# Altium integrated library AMP CompactPCI Type B.IntLib: 24 symbols
Pins are listed as number, name and electrical type; pins without a type are passive.

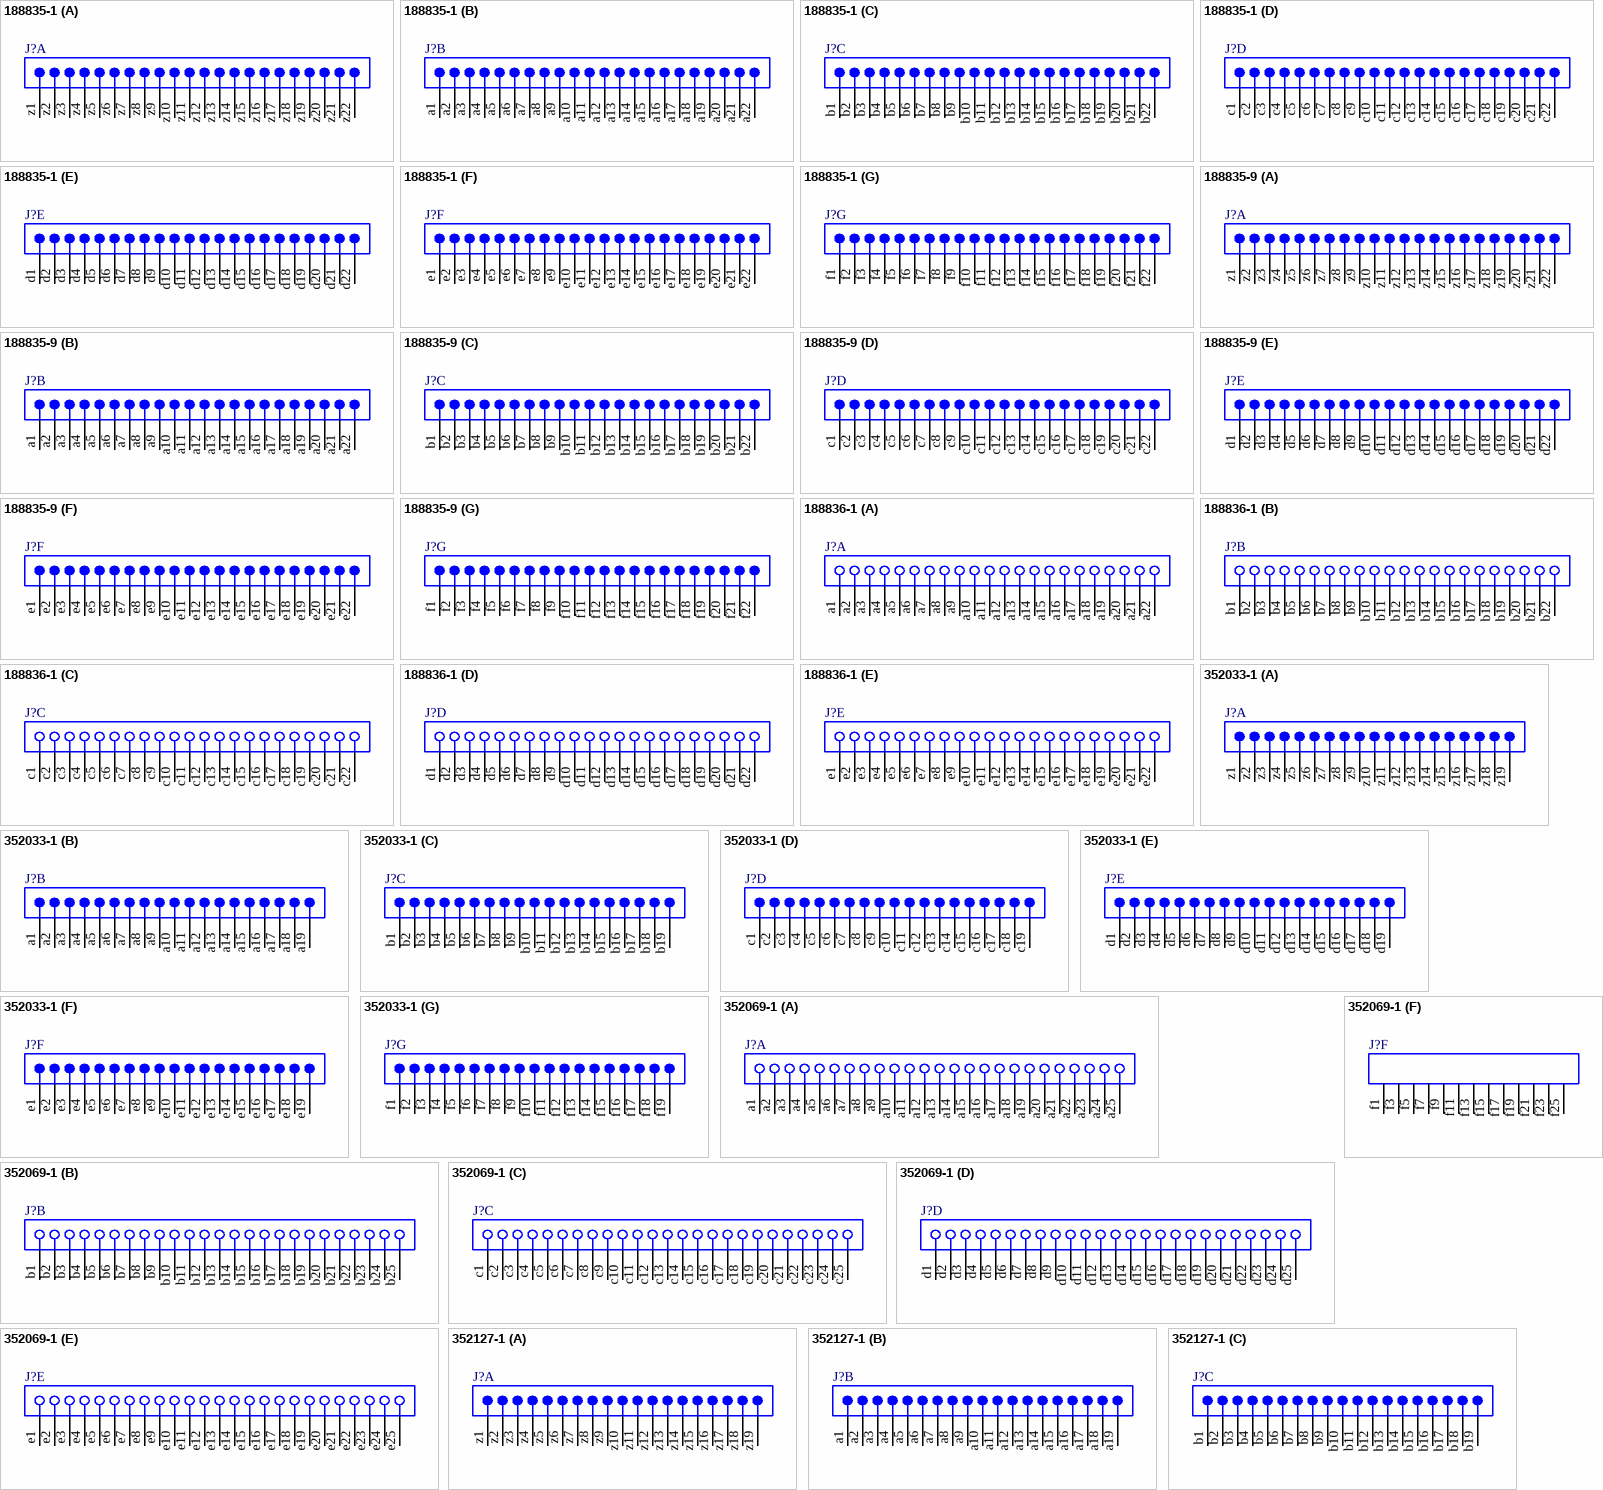
[diagram p0: symbols 188835-1 to 352127-1]

## 188835-1
designator J?
Z-Pack 2mm Hard Metric Type B 154 Position Male PCB Mount Connector; ContactMaterial: Phosphor Bronze; ContactPlating: Gold (30) over Nickel (50); Positions: 154; PCB_Layout: Complies with manufacturer's recommendation.; DrillSize: Corresponds to nominal value.; Published: 17-Jul-2002; LatestRevisionDate: 29-May-2009; LatestRevisionNote: Component Body Added.; DatasheetVersion: 22-Jan-1999; PackageVersion: 22-Jan-1999; PackageReference: 188835-1; Publisher: Altium Limited; Orientation: Vertical; HousingMaterial: Glass-Filled Polyester, UL 94V-0; ComponentLink1Description: Manufacturer Link; ComponentLink1URL: http://www.tycoelectronics.com/; ComponentLink2Description: Packaging Specification; ComponentLink2URL: http://ecommas.tycoelectronics.com/commerce/DocumentDelivery/DDEController?Action=showdoc&DocId=Customer+Drawing%7F188835%7FC%7Fpdf%7FEnglish%7FENG_CD_188835_C.pdf; ComponentLink3Description: Iges Model; ComponentLink3URL: http://catalog.tycoelectronics.com/TE/docs/cadgeo/8/75/38578.tar.gz
footprint 188835-1 (Connector; CompactPCI; 154 Position; Vertical)
signal-integrity model CompactPCI
part A pins: z1, z2, z3, z4, z5, z6, z7, z8, z9, z10, z11, z12, z13, z14, z15, z16, z17, z18, z19, z20, z21, z22
part B pins: a1, a2, a3, a4, a5, a6, a7, a8, a9, a10, a11, a12, a13, a14, a15, a16, a17, a18, a19, a20, a21, a22
part C pins: b1, b2, b3, b4, b5, b6, b7, b8, b9, b10, b11, b12, b13, b14, b15, b16, b17, b18, b19, b20, b21, b22
part D pins: c1, c2, c3, c4, c5, c6, c7, c8, c9, c10, c11, c12, c13, c14, c15, c16, c17, c18, c19, c20, c21, c22
part E pins: d1, d2, d3, d4, d5, d6, d7, d8, d9, d10, d11, d12, d13, d14, d15, d16, d17, d18, d19, d20, d21, d22
part F pins: e1, e2, e3, e4, e5, e6, e7, e8, e9, e10, e11, e12, e13, e14, e15, e16, e17, e18, e19, e20, e21, e22
part G pins: f1, f2, f3, f4, f5, f6, f7, f8, f9, f10, f11, f12, f13, f14, f15, f16, f17, f18, f19, f20, f21, f22

## 188835-9
designator J?
Z-Pack 2mm Hard Metric Type B 154 Position Male PCB Mount Connector; ContactMaterial: Phosphor Bronze; ContactPlating: Gold (30) over Nickel (50); Positions: 154; PCB_Layout: Complies with manufacturer's recommendation.; DrillSize: Corresponds to nominal value.; Published: 17-Jul-2002; LatestRevisionDate: 29-May-2009; LatestRevisionNote: Component Body Added.; DatasheetVersion: 22-Jan-1999; PackageVersion: 22-Jan-1999; PackageReference: 188835-9; Publisher: Altium Limited; Orientation: Vertical; HousingMaterial: Glass-Filled Polyester, UL 94V-0; ComponentLink1Description: Manufacturer Link; ComponentLink1URL: http://www.tycoelectronics.com/; ComponentLink2Description: Packaging Specification; ComponentLink2URL: http://ecommas.tycoelectronics.com/commerce/DocumentDelivery/DDEController?Action=showdoc&DocId=Customer+Drawing%7F188835%7FC%7Fpdf%7FEnglish%7FENG_CD_188835_C.pdf; ComponentLink3Description: Iges Model; ComponentLink3URL: http://catalog.tycoelectronics.com/TE/docs/cadgeo/8/75/38578.tar.gz
footprint 188835-9 (Connector; CompactPCI; 154 Position; Vertical)
signal-integrity model CompactPCI
part A pins: z1, z2, z3, z4, z5, z6, z7, z8, z9, z10, z11, z12, z13, z14, z15, z16, z17, z18, z19, z20, z21, z22
part B pins: a1, a2, a3, a4, a5, a6, a7, a8, a9, a10, a11, a12, a13, a14, a15, a16, a17, a18, a19, a20, a21, a22
part C pins: b1, b2, b3, b4, b5, b6, b7, b8, b9, b10, b11, b12, b13, b14, b15, b16, b17, b18, b19, b20, b21, b22
part D pins: c1, c2, c3, c4, c5, c6, c7, c8, c9, c10, c11, c12, c13, c14, c15, c16, c17, c18, c19, c20, c21, c22
part E pins: d1, d2, d3, d4, d5, d6, d7, d8, d9, d10, d11, d12, d13, d14, d15, d16, d17, d18, d19, d20, d21, d22
part F pins: e1, e2, e3, e4, e5, e6, e7, e8, e9, e10, e11, e12, e13, e14, e15, e16, e17, e18, e19, e20, e21, e22
part G pins: f1, f2, f3, f4, f5, f6, f7, f8, f9, f10, f11, f12, f13, f14, f15, f16, f17, f18, f19, f20, f21, f22

## 188836-1
designator J?
Z-Pack 2mm Hard Metric Type B 110 Position Female Daughter Card Connector; ContactMaterial: Phosphor Bronze; ContactPlating: Gold (30) over Nickel (50); Positions: 110; PCB_Layout: Complies with manufacturer's recommendation.; DrillSize: Corresponds to nominal value.; Published: 17-Jul-2002; LatestRevisionDate: 29-May-2009; LatestRevisionNote: Component Body Added.; DatasheetVersion: 2-Jun-1997; PackageVersion: 02-Jun-1997; PackageReference: 188836-1; Publisher: Altium Limited; Orientation: Right Angle; HousingMaterial: Glass-Filled Polyester, UL 94V-0; ComponentLink1Description: Manufacturer Link; ComponentLink1URL: http://www.tycoelectronics.com/; ComponentLink2Description: Packaging Specification; ComponentLink2URL: http://ecommas.tycoelectronics.com/commerce/DocumentDelivery/DDEController?Action=showdoc&DocId=Customer+Drawing%7F188836%7FE%7Ftif%7FEnglish%7FENG_CD_188836_E.tif
footprint 188836-1 (Connector; CompactPCI; 110 Position; Right Angle)
signal-integrity model CompactPCI
part A pins: a1, a2, a3, a4, a5, a6, a7, a8, a9, a10, a11, a12, a13, a14, a15, a16, a17, a18, a19, a20, a21, a22
part B pins: b1, b2, b3, b4, b5, b6, b7, b8, b9, b10, b11, b12, b13, b14, b15, b16, b17, b18, b19, b20, b21, b22
part C pins: c1, c2, c3, c4, c5, c6, c7, c8, c9, c10, c11, c12, c13, c14, c15, c16, c17, c18, c19, c20, c21, c22
part D pins: d1, d2, d3, d4, d5, d6, d7, d8, d9, d10, d11, d12, d13, d14, d15, d16, d17, d18, d19, d20, d21, d22
part E pins: e1, e2, e3, e4, e5, e6, e7, e8, e9, e10, e11, e12, e13, e14, e15, e16, e17, e18, e19, e20, e21, e22

## 352033-1
designator J?
Z-Pack 2mm Hard Metric Type B 133 Position Male PCB Mount Connector; ContactMaterial: Phosphor Bronze; ContactPlating: Gold (30) over Nickel (50); Positions: 133; PCB_Layout: Complies with manufacturer's recommendation.; DrillSize: Corresponds to nominal value.; Published: 17-Jul-2002; LatestRevisionDate: 29-May-2009; LatestRevisionNote: Component Body Added.; DatasheetVersion: 13-Jun-2000; PackageVersion: 13-Jun-2000; PackageReference: 352033-1; Publisher: Altium Limited; Orientation: Vertical; HousingMaterial: Glass-Filled Polyester, UL 94V-0; ComponentLink1Description: Manufacturer Link; ComponentLink1URL: http://www.tycoelectronics.com/; ComponentLink2Description: Packaging Specification; ComponentLink2URL: http://ecommas.tycoelectronics.com/commerce/DocumentDelivery/DDEController?Action=showdoc&DocId=Customer+Drawing%7F352033%7FF%7Ftif%7FEnglish%7FENG_CD_352033_F.tif; ComponentLink3Description: Iges Model; ComponentLink3URL: http://catalog.tycoelectronics.com/TE/docs/cadgeo/8/72/36278.tar.gz
footprint 352033-1 (Connector; CompactPCI; 133 Position; Vertical)
signal-integrity model CompactPCI
part A pins: z1, z2, z3, z4, z5, z6, z7, z8, z9, z10, z11, z12, z13, z14, z15, z16, z17, z18, z19
part B pins: a1, a2, a3, a4, a5, a6, a7, a8, a9, a10, a11, a12, a13, a14, a15, a16, a17, a18, a19
part C pins: b1, b2, b3, b4, b5, b6, b7, b8, b9, b10, b11, b12, b13, b14, b15, b16, b17, b18, b19
part D pins: c1, c2, c3, c4, c5, c6, c7, c8, c9, c10, c11, c12, c13, c14, c15, c16, c17, c18, c19
part E pins: d1, d2, d3, d4, d5, d6, d7, d8, d9, d10, d11, d12, d13, d14, d15, d16, d17, d18, d19
part F pins: e1, e2, e3, e4, e5, e6, e7, e8, e9, e10, e11, e12, e13, e14, e15, e16, e17, e18, e19
part G pins: f1, f2, f3, f4, f5, f6, f7, f8, f9, f10, f11, f12, f13, f14, f15, f16, f17, f18, f19

## 352069-1
designator J?
Z-Pack 2mm Hard Metric Type B 125 Position Female PCB Mount Connector; ContactMaterial: Phosphor Bronze; ContactPlating: Gold (30) over Nickel (50); Positions: 125; PCB_Layout: Complies with manufacturer's recommendation.; DrillSize: Corresponds to nominal value.; Published: 17-Jul-2002; LatestRevisionDate: 29-May-2009; LatestRevisionNote: Component Body Added.; DatasheetVersion: 12-Jul-2000; PackageVersion: 12-Jul-2000; PackageReference: 352069-1; Publisher: Altium Limited; Orientation: Right Angle; HousingMaterial: Glass-Filled Polyester, UL 94V-0; ComponentLink1Description: Manufacturer Link; ComponentLink1URL: http://www.tycoelectronics.com/; ComponentLink2Description: Packaging Specification; ComponentLink2URL: http://ecommas.tycoelectronics.com/commerce/DocumentDelivery/DDEController?Action=showdoc&DocId=Customer+Drawing%7F352069%7FF%7Fpdf%7FEnglish%7FENG_CD_352069_F.pdf; ComponentLink3Description: Iges Model; ComponentLink3URL: http://catalog.tycoelectronics.com/TE/docs/cadgeo/9/10/34019.tar.gz
footprint 352069-1 (Connector; CompactPCI; 125 Position; Right Angle)
signal-integrity model CompactPCI
part A pins: a1, a2, a3, a4, a5, a6, a7, a8, a9, a10, a11, a12, a13, a14, a15, a16, a17, a18, a19, a20, a21, a22, a23, a24, a25
part B pins: b1, b2, b3, b4, b5, b6, b7, b8, b9, b10, b11, b12, b13, b14, b15, b16, b17, b18, b19, b20, b21, b22, b23, b24, b25
part C pins: c1, c2, c3, c4, c5, c6, c7, c8, c9, c10, c11, c12, c13, c14, c15, c16, c17, c18, c19, c20, c21, c22, c23, c24, c25
part D pins: d1, d2, d3, d4, d5, d6, d7, d8, d9, d10, d11, d12, d13, d14, d15, d16, d17, d18, d19, d20, d21, d22, d23, d24, d25
part E pins: e1, e2, e3, e4, e5, e6, e7, e8, e9, e10, e11, e12, e13, e14, e15, e16, e17, e18, e19, e20, e21, e22, e23, e24, e25
part F pins: f1, f3, f5, f7, f9, f11, f13, f15, f17, f19, f21, f23, f25

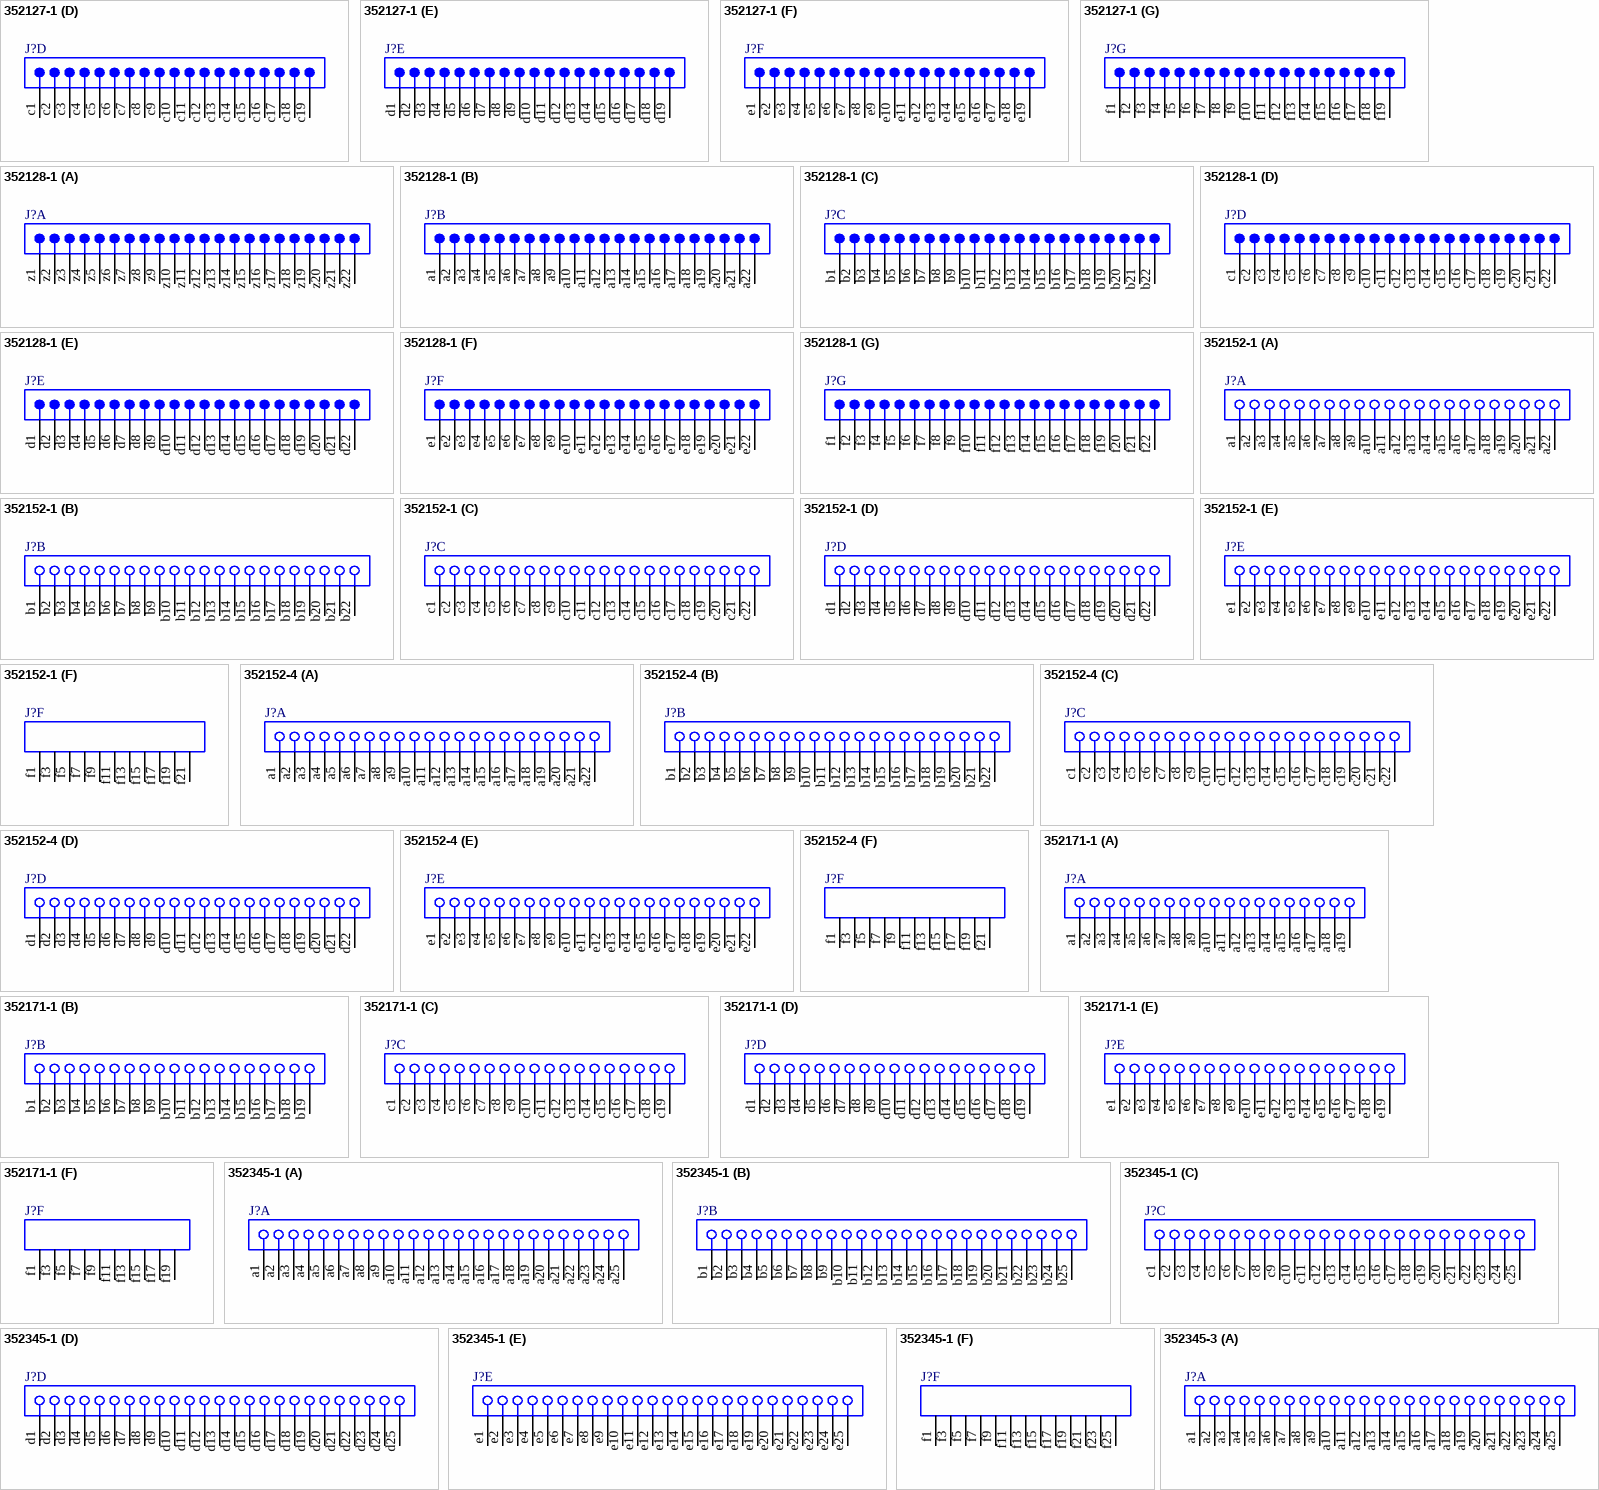
[diagram p1: symbols 352127-1 to 352345-3]

## 352127-1
designator J?
Z-Pack 2mm Hard Metric Type B 133 Position Male PCB Mount Connector; ContactMaterial: Phosphor Bronze; ContactPlating: Gold (30) over Nickel (50); Positions: 133; PCB_Layout: Complies with manufacturer's recommendation.; DrillSize: Corresponds to nominal value.; Published: 17-Jul-2002; LatestRevisionDate: 29-May-2009; LatestRevisionNote: Component Body Added.; DatasheetVersion: 7-Mar-2000; PackageVersion: 07-Mar-2000; PackageReference: 352127-1; Publisher: Altium Limited; Orientation: Vertical; HousingMaterial: Glass-Filled Polyester, UL 94V-0; ComponentLink1Description: Manufacturer Link; ComponentLink1URL: http://www.tycoelectronics.com/; ComponentLink2Description: Packaging Specification; ComponentLink2URL: http://ecommas.tycoelectronics.com/commerce/DocumentDelivery/DDEController?Action=showdoc&DocId=Customer+Drawing%7F352127%7FE%7Ftif%7FEnglish%7FENG_CD_352127_E.tif; ComponentLink3Description: Iges Model; ComponentLink3URL: http://catalog.tycoelectronics.com/TE/docs/cadgeo/6/56/38656.tar.gz
footprint 352127-1 (Connector; CompactPCI; 133 Position; Vertical)
signal-integrity model CompactPCI
part A pins: z1, z2, z3, z4, z5, z6, z7, z8, z9, z10, z11, z12, z13, z14, z15, z16, z17, z18, z19
part B pins: a1, a2, a3, a4, a5, a6, a7, a8, a9, a10, a11, a12, a13, a14, a15, a16, a17, a18, a19
part C pins: b1, b2, b3, b4, b5, b6, b7, b8, b9, b10, b11, b12, b13, b14, b15, b16, b17, b18, b19
part D pins: c1, c2, c3, c4, c5, c6, c7, c8, c9, c10, c11, c12, c13, c14, c15, c16, c17, c18, c19
part E pins: d1, d2, d3, d4, d5, d6, d7, d8, d9, d10, d11, d12, d13, d14, d15, d16, d17, d18, d19
part F pins: e1, e2, e3, e4, e5, e6, e7, e8, e9, e10, e11, e12, e13, e14, e15, e16, e17, e18, e19
part G pins: f1, f2, f3, f4, f5, f6, f7, f8, f9, f10, f11, f12, f13, f14, f15, f16, f17, f18, f19

## 352128-1
designator J?
Z-Pack 2mm Hard Metric Type B 154 Position Male PCB Mount Connector; ContactMaterial: Phosphor Bronze; ContactPlating: Gold (30) over Nickel (50); Positions: 154; PCB_Layout: Complies with manufacturer's recommendation.; DrillSize: Corresponds to nominal value.; Published: 17-Jul-2002; LatestRevisionDate: 29-May-2009; LatestRevisionNote: Component Body Added.; DatasheetVersion: 10-Mar-2000; PackageVersion: 10-Mar-2000; PackageReference: 352128-1; Publisher: Altium Limited; Orientation: Vertical; HousingMaterial: Glass-Filled Polyester, UL 94V-0; ComponentLink1Description: Manufacturer Link; ComponentLink1URL: http://www.tycoelectronics.com/; ComponentLink2Description: Packaging Specification; ComponentLink2URL: http://ecommas.tycoelectronics.com/commerce/DocumentDelivery/DDEController?Action=showdoc&DocId=Customer+Drawing%7F352128%7FD%7Ftif%7FEnglish%7FENG_CD_352128_D.tif; ComponentLink3Description: Iges Model; ComponentLink3URL: http://catalog.tycoelectronics.com/TE/docs/cadgeo/2/66/38662.tar.gz
footprint 352128-1 (Connector; CompactPCI; 154 Position; Vertical)
signal-integrity model CompactPCI
part A pins: z1, z2, z3, z4, z5, z6, z7, z8, z9, z10, z11, z12, z13, z14, z15, z16, z17, z18, z19, z20, z21, z22
part B pins: a1, a2, a3, a4, a5, a6, a7, a8, a9, a10, a11, a12, a13, a14, a15, a16, a17, a18, a19, a20, a21, a22
part C pins: b1, b2, b3, b4, b5, b6, b7, b8, b9, b10, b11, b12, b13, b14, b15, b16, b17, b18, b19, b20, b21, b22
part D pins: c1, c2, c3, c4, c5, c6, c7, c8, c9, c10, c11, c12, c13, c14, c15, c16, c17, c18, c19, c20, c21, c22
part E pins: d1, d2, d3, d4, d5, d6, d7, d8, d9, d10, d11, d12, d13, d14, d15, d16, d17, d18, d19, d20, d21, d22
part F pins: e1, e2, e3, e4, e5, e6, e7, e8, e9, e10, e11, e12, e13, e14, e15, e16, e17, e18, e19, e20, e21, e22
part G pins: f1, f2, f3, f4, f5, f6, f7, f8, f9, f10, f11, f12, f13, f14, f15, f16, f17, f18, f19, f20, f21, f22

## 352152-1
designator J?
Z-Pack 2mm Hard Metric Type B 110 Position Female Daughter Card Connector; ContactMaterial: Phosphor Bronze; ContactPlating: Gold (30) over Nickel (50); Positions: 110; PCB_Layout: Complies with manufacturer's recommendation.; DrillSize: Corresponds to nominal value.; Published: 17-Jul-2002; LatestRevisionDate: 29-May-2009; LatestRevisionNote: Component Body Added.; DatasheetVersion: 20-Jul-2000; PackageVersion: 20-Jul-2000; PackageReference: 352152-1; Publisher: Altium Limited; Orientation: Right Angle; HousingMaterial: Glass-Filled Polyester, UL 94V-0; ComponentLink1Description: Manufacturer Link; ComponentLink1URL: http://www.tycoelectronics.com/; ComponentLink2Description: Packaging Specification; ComponentLink2URL: http://ecommas.tycoelectronics.com/commerce/DocumentDelivery/DDEController?Action=showdoc&DocId=Customer+Drawing%7F352152%7FG%7Fpdf%7FEnglish%7FENG_CD_352152_G.pdf; ComponentLink3Description: Iges Model; ComponentLink3URL: http://catalog.tycoelectronics.com/TE/docs/cadgeo/6/66/38666.tar.gz
footprint 352152-1 (Connector; CompactPCI; 110 Position; Right Angle)
signal-integrity model CompactPCI
part A pins: a1, a2, a3, a4, a5, a6, a7, a8, a9, a10, a11, a12, a13, a14, a15, a16, a17, a18, a19, a20, a21, a22
part B pins: b1, b2, b3, b4, b5, b6, b7, b8, b9, b10, b11, b12, b13, b14, b15, b16, b17, b18, b19, b20, b21, b22
part C pins: c1, c2, c3, c4, c5, c6, c7, c8, c9, c10, c11, c12, c13, c14, c15, c16, c17, c18, c19, c20, c21, c22
part D pins: d1, d2, d3, d4, d5, d6, d7, d8, d9, d10, d11, d12, d13, d14, d15, d16, d17, d18, d19, d20, d21, d22
part E pins: e1, e2, e3, e4, e5, e6, e7, e8, e9, e10, e11, e12, e13, e14, e15, e16, e17, e18, e19, e20, e21, e22
part F pins: f1, f3, f5, f7, f9, f11, f13, f15, f17, f19, f21

## 352152-4
designator J?
Z-Pack 2mm Hard Metric Type B 110 Position Female Daughter Card Connector; ContactMaterial: Phosphor Bronze; ContactPlating: Gold (50) over Nickel (50); Positions: 110; PCB_Layout: Complies with manufacturer's recommendation.; DrillSize: Corresponds to nominal value.; Published: 17-Jul-2002; LatestRevisionDate: 29-May-2009; LatestRevisionNote: Component Body Added.; DatasheetVersion: 20-Jul-2000; PackageVersion: 20-Jul-2000; PackageReference: 352152-4; Publisher: Altium Limited; Orientation: Right Angle; HousingMaterial: Glass-Filled Polyester, UL 94V-0; ComponentLink1Description: Manufacturer Link; ComponentLink1URL: http://www.tycoelectronics.com/; ComponentLink2Description: Packaging Specification; ComponentLink2URL: http://ecommas.tycoelectronics.com/commerce/DocumentDelivery/DDEController?Action=showdoc&DocId=Customer+Drawing%7F352152%7FG%7Fpdf%7FEnglish%7FENG_CD_352152_G.pdf; ComponentLink3Description: Iges Model; ComponentLink3URL: http://catalog.tycoelectronics.com/TE/docs/cadgeo/6/66/38666.tar.gz
footprint 352152-4 (Connector; CompactPCI; 110 Position; Right Angle)
signal-integrity model CompactPCI
part A pins: a1, a2, a3, a4, a5, a6, a7, a8, a9, a10, a11, a12, a13, a14, a15, a16, a17, a18, a19, a20, a21, a22
part B pins: b1, b2, b3, b4, b5, b6, b7, b8, b9, b10, b11, b12, b13, b14, b15, b16, b17, b18, b19, b20, b21, b22
part C pins: c1, c2, c3, c4, c5, c6, c7, c8, c9, c10, c11, c12, c13, c14, c15, c16, c17, c18, c19, c20, c21, c22
part D pins: d1, d2, d3, d4, d5, d6, d7, d8, d9, d10, d11, d12, d13, d14, d15, d16, d17, d18, d19, d20, d21, d22
part E pins: e1, e2, e3, e4, e5, e6, e7, e8, e9, e10, e11, e12, e13, e14, e15, e16, e17, e18, e19, e20, e21, e22
part F pins: f1, f3, f5, f7, f9, f11, f13, f15, f17, f19, f21

## 352171-1
designator J?
Z-Pack 2mm Hard Metric Type B 95 Position Female PCB Mount Connector; ContactMaterial: Phosphor Bronze; ContactPlating: Gold (30) over Nickel (50); Positions: 95; PCB_Layout: Complies with manufacturer's recommendation.; DrillSize: Corresponds to nominal value.; Published: 17-Jul-2002; LatestRevisionDate: 29-May-2009; LatestRevisionNote: Component Body Added.; DatasheetVersion: 19-Jul-2000; PackageVersion: 19-Jul-2000; PackageReference: 352171-1; Publisher: Altium Limited; Orientation: Right Angle; HousingMaterial: Glass-Filled Polyester, UL 94V-0; ComponentLink1Description: Manufacturer Link; ComponentLink1URL: http://www.tycoelectronics.com/; ComponentLink2Description: Packaging Specification; ComponentLink2URL: http://ecommas.tycoelectronics.com/commerce/DocumentDelivery/DDEController?Action=showdoc&DocId=Customer+Drawing%7F352171%7FF%7Ftif%7FEnglish%7FENG_CD_352171_F.tif; ComponentLink3Description: Iges Model; ComponentLink3URL: http://catalog.tycoelectronics.com/TE/docs/cadgeo/4/76/38674.tar.gz
footprint 352171-1 (Connector; CompactPCI; 95 Position; Right Angle)
signal-integrity model CompactPCI
part A pins: a1, a2, a3, a4, a5, a6, a7, a8, a9, a10, a11, a12, a13, a14, a15, a16, a17, a18, a19
part B pins: b1, b2, b3, b4, b5, b6, b7, b8, b9, b10, b11, b12, b13, b14, b15, b16, b17, b18, b19
part C pins: c1, c2, c3, c4, c5, c6, c7, c8, c9, c10, c11, c12, c13, c14, c15, c16, c17, c18, c19
part D pins: d1, d2, d3, d4, d5, d6, d7, d8, d9, d10, d11, d12, d13, d14, d15, d16, d17, d18, d19
part E pins: e1, e2, e3, e4, e5, e6, e7, e8, e9, e10, e11, e12, e13, e14, e15, e16, e17, e18, e19
part F pins: f1, f3, f5, f7, f9, f11, f13, f15, f17, f19

## 352345-1
designator J?
Z-Pack 2mm Hard Metric Type B 125 Position Female PCB Mount Connector; ContactMaterial: Phosphor Bronze; ContactPlating: Gold (30) over Nickel (50); Positions: 125; PCB_Layout: Complies with manufacturer's recommendation.; DrillSize: Corresponds to nominal value.; Published: 17-Jul-2002; LatestRevisionDate: 29-May-2009; LatestRevisionNote: Component Body Added.; DatasheetVersion: 13-Jul-2000; PackageVersion: 13-Jul-2000; PackageReference: 352345-1; Publisher: Altium Limited; Orientation: Right Angle; HousingMaterial: Glass-Filled Polyester, UL 94V-0; ComponentLink1Description: Manufacturer Link; ComponentLink1URL: http://www.tycoelectronics.com/; ComponentLink2Description: Packaging Specification; ComponentLink2URL: http://ecommas.tycoelectronics.com/commerce/DocumentDelivery/DDEController?Action=showdoc&DocId=Customer+Drawing%7F352345%7FE%7Ftif%7FEnglish%7FENG_CD_352345_E.tif; ComponentLink3Description: URL Link1; ComponentLink3URL: http://catalog.tycoelectronics.com/TE/docs/cadgeo/6/79/72976.tar.gz
footprint 352345-1 (Connector; CompactPCI; 125 Position; Right Angle)
signal-integrity model CompactPCI
part A pins: a1, a2, a3, a4, a5, a6, a7, a8, a9, a10, a11, a12, a13, a14, a15, a16, a17, a18, a19, a20, a21, a22, a23, a24, a25
part B pins: b1, b2, b3, b4, b5, b6, b7, b8, b9, b10, b11, b12, b13, b14, b15, b16, b17, b18, b19, b20, b21, b22, b23, b24, b25
part C pins: c1, c2, c3, c4, c5, c6, c7, c8, c9, c10, c11, c12, c13, c14, c15, c16, c17, c18, c19, c20, c21, c22, c23, c24, c25
part D pins: d1, d2, d3, d4, d5, d6, d7, d8, d9, d10, d11, d12, d13, d14, d15, d16, d17, d18, d19, d20, d21, d22, d23, d24, d25
part E pins: e1, e2, e3, e4, e5, e6, e7, e8, e9, e10, e11, e12, e13, e14, e15, e16, e17, e18, e19, e20, e21, e22, e23, e24, e25
part F pins: f1, f3, f5, f7, f9, f11, f13, f15, f17, f19, f21, f23, f25

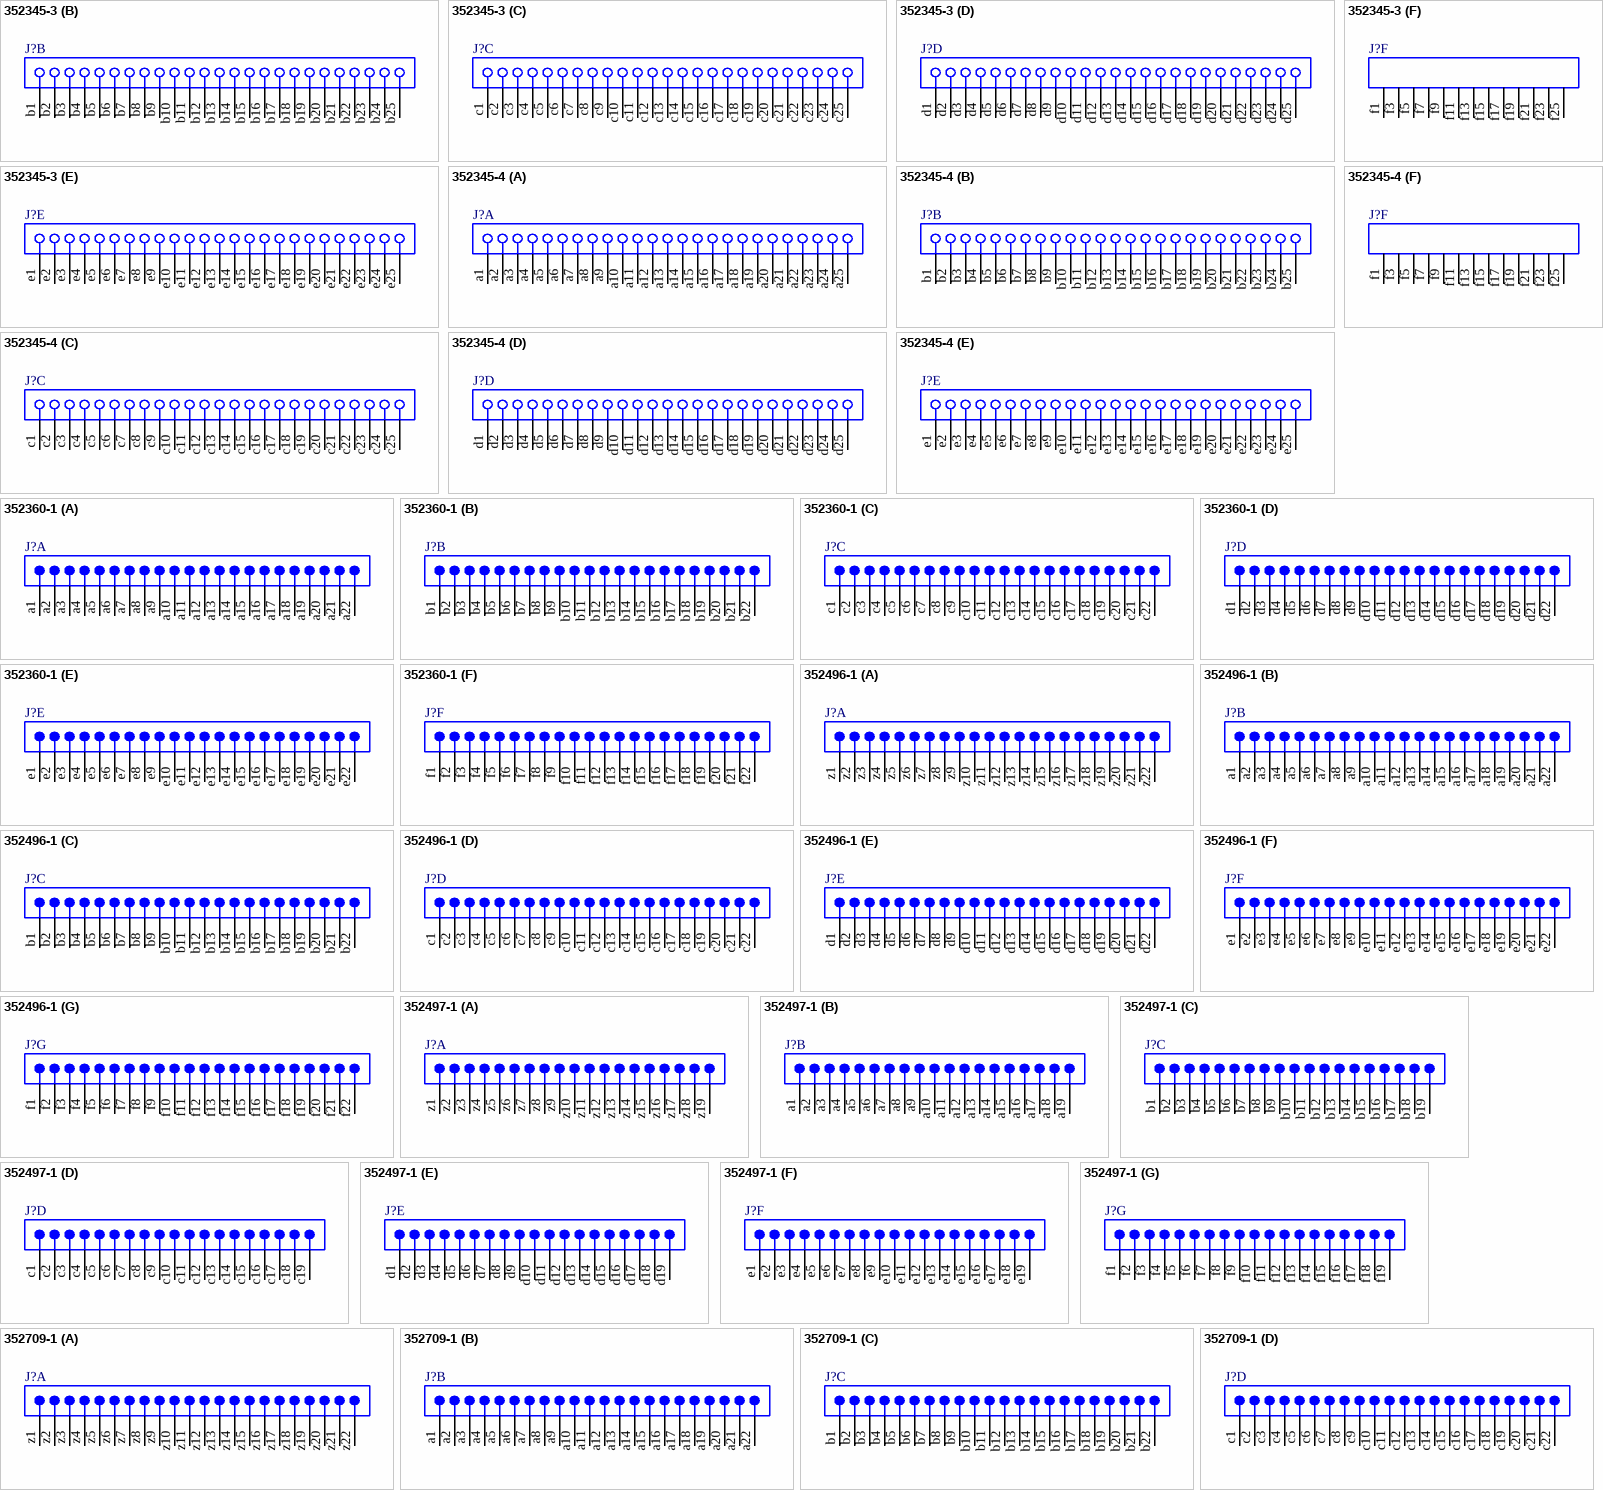
[diagram p2: symbols 352345-3 to 352709-1]

## 352345-3
designator J?
Z-Pack 2mm Hard Metric Type B 125 Position Female PCB Mount Connector; ContactMaterial: Phosphor Bronze; ContactPlating: Gold (80) over Nickel; Positions: 125; PCB_Layout: Complies with manufacturer's recommendation.; DrillSize: Corresponds to nominal value.; ComponentAvailability: Obsolete; Published: 17-Jul-2002; LatestRevisionDate: 29-May-2009; LatestRevisionNote: Component Body Added.; DatasheetVersion: 13-Jul-2000; PackageVersion: 13-Jul-2000; PackageReference: 352345-3; Publisher: Altium Limited; Orientation: Right Angle; HousingMaterial: Glass-Filled Polyester, UL 94V-0; ComponentLink1Description: Manufacturer Link; ComponentLink1URL: http://www.tycoelectronics.com/; ComponentLink2Description: Packaging Specification; ComponentLink2URL: http://ecommas.tycoelectronics.com/commerce/DocumentDelivery/DDEController?Action=showdoc&DocId=Customer+Drawing%7F352345%7FE%7Ftif%7FEnglish%7FENG_CD_352345_E.tif; ComponentLink3Description: URL Link1; ComponentLink3URL: http://catalog.tycoelectronics.com/TE/docs/cadgeo/6/79/72976.tar.gz
footprint 352345-3 (Connector; CompactPCI; 125 Position; Right Angle)
signal-integrity model CompactPCI
part A pins: a1, a2, a3, a4, a5, a6, a7, a8, a9, a10, a11, a12, a13, a14, a15, a16, a17, a18, a19, a20, a21, a22, a23, a24, a25
part B pins: b1, b2, b3, b4, b5, b6, b7, b8, b9, b10, b11, b12, b13, b14, b15, b16, b17, b18, b19, b20, b21, b22, b23, b24, b25
part C pins: c1, c2, c3, c4, c5, c6, c7, c8, c9, c10, c11, c12, c13, c14, c15, c16, c17, c18, c19, c20, c21, c22, c23, c24, c25
part D pins: d1, d2, d3, d4, d5, d6, d7, d8, d9, d10, d11, d12, d13, d14, d15, d16, d17, d18, d19, d20, d21, d22, d23, d24, d25
part E pins: e1, e2, e3, e4, e5, e6, e7, e8, e9, e10, e11, e12, e13, e14, e15, e16, e17, e18, e19, e20, e21, e22, e23, e24, e25
part F pins: f1, f3, f5, f7, f9, f11, f13, f15, f17, f19, f21, f23, f25

## 352345-4
designator J?
Z-Pack 2mm Hard Metric Type B 125 Position Female PCB Mount Connector; ContactMaterial: Phosphor Bronze; ContactPlating: Gold (50) over Nickel (50); Positions: 125; PCB_Layout: Complies with manufacturer's recommendation.; DrillSize: Corresponds to nominal value.; Published: 17-Jul-2002; LatestRevisionDate: 29-May-2009; LatestRevisionNote: Component Body Added.; DatasheetVersion: 13-Jul-2000; PackageVersion: 13-Jul-2000; PackageReference: 352345-4; Publisher: Altium Limited; Orientation: Right Angle; HousingMaterial: Glass-Filled Polyester, UL 94V-0; ComponentLink1Description: Manufacturer Link; ComponentLink1URL: http://www.tycoelectronics.com/; ComponentLink2Description: Packaging Specification; ComponentLink2URL: http://ecommas.tycoelectronics.com/commerce/DocumentDelivery/DDEController?Action=showdoc&DocId=Customer+Drawing%7F352345%7FE%7Ftif%7FEnglish%7FENG_CD_352345_E.tif; ComponentLink3Description: URL Link1; ComponentLink3URL: http://catalog.tycoelectronics.com/TE/docs/cadgeo/6/79/72976.tar.gz
footprint 352345-4 (Connector; CompactPCI; 125 Position; Right Angle)
signal-integrity model CompactPCI
part A pins: a1, a2, a3, a4, a5, a6, a7, a8, a9, a10, a11, a12, a13, a14, a15, a16, a17, a18, a19, a20, a21, a22, a23, a24, a25
part B pins: b1, b2, b3, b4, b5, b6, b7, b8, b9, b10, b11, b12, b13, b14, b15, b16, b17, b18, b19, b20, b21, b22, b23, b24, b25
part C pins: c1, c2, c3, c4, c5, c6, c7, c8, c9, c10, c11, c12, c13, c14, c15, c16, c17, c18, c19, c20, c21, c22, c23, c24, c25
part D pins: d1, d2, d3, d4, d5, d6, d7, d8, d9, d10, d11, d12, d13, d14, d15, d16, d17, d18, d19, d20, d21, d22, d23, d24, d25
part E pins: e1, e2, e3, e4, e5, e6, e7, e8, e9, e10, e11, e12, e13, e14, e15, e16, e17, e18, e19, e20, e21, e22, e23, e24, e25
part F pins: f1, f3, f5, f7, f9, f11, f13, f15, f17, f19, f21, f23, f25

## 352360-1
designator J?
Z-pack 2mm Hard Metric Type B 132 Position Male PCB Mount Connector; ContactMaterial: Phosphor Bronze; ContactPlating: Gold (30) over Nickel (50); Positions: 132; PCB_Layout: Complies with manufacturer's recommendation.; DrillSize: Corresponds to nominal value.; ComponentAvailability: Obsolete; Published: 17-Jul-2002; LatestRevisionDate: 29-May-2009; LatestRevisionNote: Component Body Added.; DatasheetVersion: 10-Mar-2000; PackageVersion: 10-Mar-2000; PackageReference: 352360-1; Publisher: Altium Limited; Orientation: Vertical; HousingMaterial: Glass-Filled Polyester, UL 94V-0; ComponentLink1Description: Manufacturer Link; ComponentLink1URL: http://www.tycoelectronics.com/; ComponentLink2Description: Packaging Specification; ComponentLink2URL: http://ecommas.tycoelectronics.com/commerce/DocumentDelivery/DDEController?Action=showdoc&DocId=Customer+Drawing%7F352360%7FB%7Fpdf%7FEnglish%7FENG_CD_352360_B.pdf
footprint 352360-1 (Connector; CompactPCI; 132 Position; Vertical)
signal-integrity model CompactPCI
part A pins: a1, a2, a3, a4, a5, a6, a7, a8, a9, a10, a11, a12, a13, a14, a15, a16, a17, a18, a19, a20, a21, a22
part B pins: b1, b2, b3, b4, b5, b6, b7, b8, b9, b10, b11, b12, b13, b14, b15, b16, b17, b18, b19, b20, b21, b22
part C pins: c1, c2, c3, c4, c5, c6, c7, c8, c9, c10, c11, c12, c13, c14, c15, c16, c17, c18, c19, c20, c21, c22
part D pins: d1, d2, d3, d4, d5, d6, d7, d8, d9, d10, d11, d12, d13, d14, d15, d16, d17, d18, d19, d20, d21, d22
part E pins: e1, e2, e3, e4, e5, e6, e7, e8, e9, e10, e11, e12, e13, e14, e15, e16, e17, e18, e19, e20, e21, e22
part F pins: f1, f2, f3, f4, f5, f6, f7, f8, f9, f10, f11, f12, f13, f14, f15, f16, f17, f18, f19, f20, f21, f22

## 352496-1
designator J?
Z-Pack 2mm Hard Metric Type B 154 Position Male PCB Mount Connector; ContactMaterial: Phosphor Bronze; ContactPlating: Gold (30) over Nickel (50); Positions: 154; PCB_Layout: Complies with manufacturer's recommendation.; DrillSize: Corresponds to nominal value.; ComponentAvailability: Obsolete; Published: 17-Jul-2002; LatestRevisionDate: 29-May-2009; LatestRevisionNote: Component Body Added.; DatasheetVersion: 19-May-1998; PackageVersion: 19-May-1998; PackageReference: 352496-1; Publisher: Altium Limited; Orientation: Vertical; HousingMaterial: Glass-Filled Polyester, UL 94V-0; ComponentLink1Description: Manufacturer Link; ComponentLink1URL: http://www.tycoelectronics.com/; ComponentLink2Description: Packaging Specification; ComponentLink2URL: http://ecommas.tycoelectronics.com/commerce/DocumentDelivery/DDEController?Action=showdoc&DocId=Customer+Drawing%7F352496%7FB%7Fpdf%7FEnglish%7FENG_CD_352496_B.pdf
footprint 352496-1 (Connector; CompactPCI; 154 Position; Vertical)
signal-integrity model CompactPCI
part A pins: z1, z2, z3, z4, z5, z6, z7, z8, z9, z10, z11, z12, z13, z14, z15, z16, z17, z18, z19, z20, z21, z22
part B pins: a1, a2, a3, a4, a5, a6, a7, a8, a9, a10, a11, a12, a13, a14, a15, a16, a17, a18, a19, a20, a21, a22
part C pins: b1, b2, b3, b4, b5, b6, b7, b8, b9, b10, b11, b12, b13, b14, b15, b16, b17, b18, b19, b20, b21, b22
part D pins: c1, c2, c3, c4, c5, c6, c7, c8, c9, c10, c11, c12, c13, c14, c15, c16, c17, c18, c19, c20, c21, c22
part E pins: d1, d2, d3, d4, d5, d6, d7, d8, d9, d10, d11, d12, d13, d14, d15, d16, d17, d18, d19, d20, d21, d22
part F pins: e1, e2, e3, e4, e5, e6, e7, e8, e9, e10, e11, e12, e13, e14, e15, e16, e17, e18, e19, e20, e21, e22
part G pins: f1, f2, f3, f4, f5, f6, f7, f8, f9, f10, f11, f12, f13, f14, f15, f16, f17, f18, f19, f20, f21, f22

## 352497-1
designator J?
Z-Pack 2mm Hard Metric Type B 133 Position Male PCB Mount Connector; ContactMaterial: Phosphor Bronze; ContactPlating: Gold (30) over Nickel (50); Positions: 133; PCB_Layout: Complies with manufacturer's recommendation.; DrillSize: Corresponds to nominal value.; ComponentAvailability: Obsolete; Published: 17-Jul-2002; LatestRevisionDate: 29-May-2009; LatestRevisionNote: Component Body Added.; DatasheetVersion: 19-May-1998; PackageVersion: 19-May-1998; PackageReference: 352497-1; Publisher: Altium Limited; Orientation: Vertical; HousingMaterial: Glass-Filled Polyester, UL 94V-0; ComponentLink1Description: Manufacturer Link; ComponentLink1URL: http://www.tycoelectronics.com/; ComponentLink2Description: Packaging Specification; ComponentLink2URL: http://ecommas.tycoelectronics.com/commerce/DocumentDelivery/DDEController?Action=showdoc&DocId=Customer+Drawing%7F352497%7FB%7Fpdf%7FEnglish%7FENG_CD_352497_B.pdf
footprint 352497-1 (Connector; CompactPCI; 133 Position; Vertical)
signal-integrity model CompactPCI
part A pins: z1, z2, z3, z4, z5, z6, z7, z8, z9, z10, z11, z12, z13, z14, z15, z16, z17, z18, z19
part B pins: a1, a2, a3, a4, a5, a6, a7, a8, a9, a10, a11, a12, a13, a14, a15, a16, a17, a18, a19
part C pins: b1, b2, b3, b4, b5, b6, b7, b8, b9, b10, b11, b12, b13, b14, b15, b16, b17, b18, b19
part D pins: c1, c2, c3, c4, c5, c6, c7, c8, c9, c10, c11, c12, c13, c14, c15, c16, c17, c18, c19
part E pins: d1, d2, d3, d4, d5, d6, d7, d8, d9, d10, d11, d12, d13, d14, d15, d16, d17, d18, d19
part F pins: e1, e2, e3, e4, e5, e6, e7, e8, e9, e10, e11, e12, e13, e14, e15, e16, e17, e18, e19
part G pins: f1, f2, f3, f4, f5, f6, f7, f8, f9, f10, f11, f12, f13, f14, f15, f16, f17, f18, f19

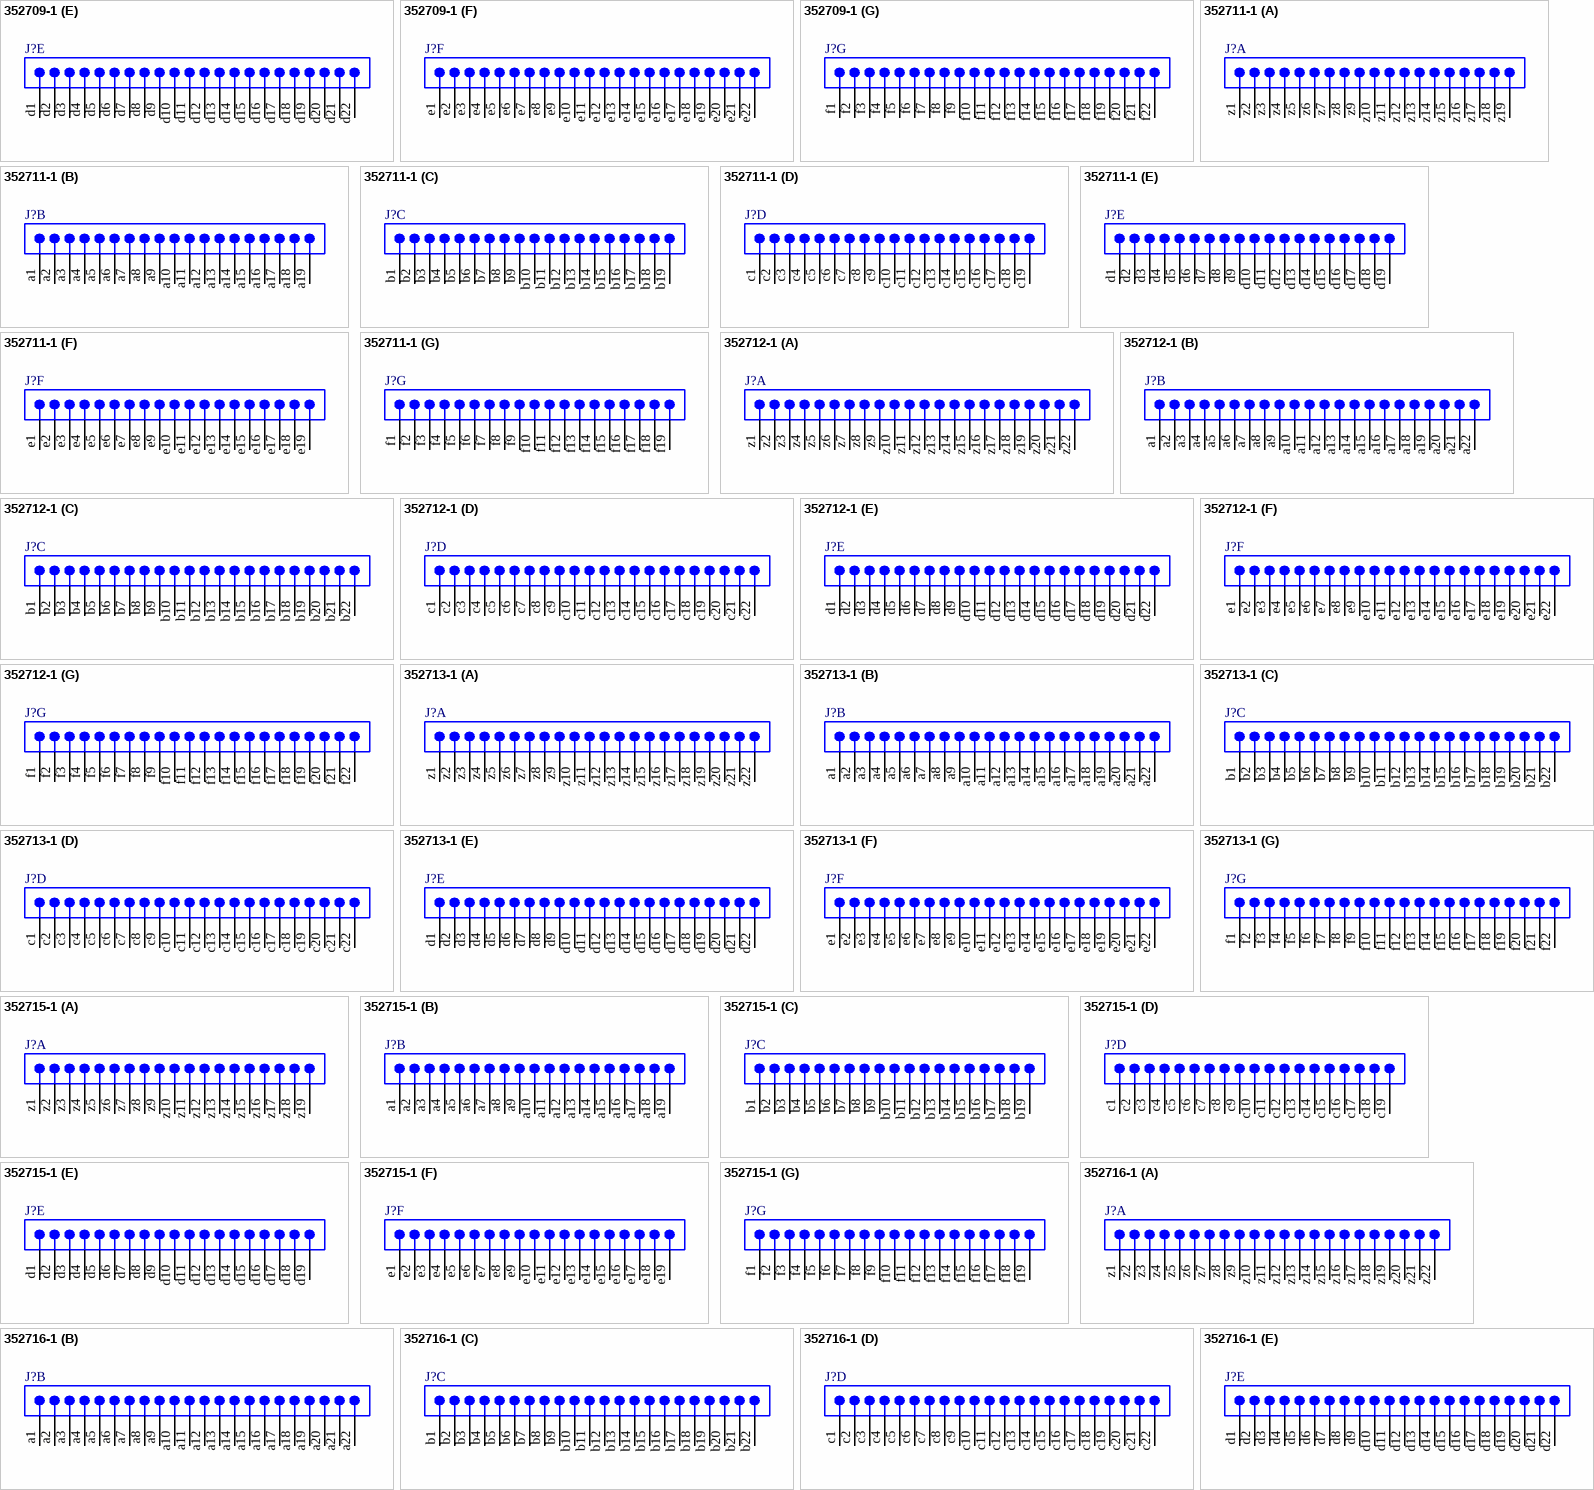
[diagram p3: symbols 352709-1 to 352716-1]

## 352709-1
designator J?
Z-pack 2mm Hard Metric Type B 132 Position Male PCB Mount Connector; ContactMaterial: Phosphor Bronze; ContactPlating: Gold (30) over Nickel (50); Positions: 132; PCB_Layout: Complies with manufacturer's recommendation.; DrillSize: Corresponds to nominal value.; ComponentAvailability: Obsolete; Published: 17-Jul-2002; LatestRevisionDate: 29-May-2009; LatestRevisionNote: Component Body Added.; DatasheetVersion: 4-Nov-1998; PackageVersion: 04-Nov-1998; PackageReference: 352709-1; Publisher: Altium Limited; Orientation: Vertical; HousingMaterial: Glass-Filled Polyester, UL 94V-0; ComponentLink1Description: Manufacturer Link; ComponentLink1URL: http://www.tycoelectronics.com/; ComponentLink2Description: Packaging Specification; ComponentLink2URL: http://ecommas.tycoelectronics.com/commerce/DocumentDelivery/DDEController?Action=showdoc&DocId=Customer+Drawing%7F352709%7FB%7Fpdf%7FEnglish%7FENG_CD_352709_B.pdf
footprint 352709-1 (Connector; CompactPCI; 132 Position; Vertical)
signal-integrity model CompactPCI
part A pins: z1, z2, z3, z4, z5, z6, z7, z8, z9, z10, z11, z12, z13, z14, z15, z16, z17, z18, z19, z20, z21, z22
part B pins: a1, a2, a3, a4, a5, a6, a7, a8, a9, a10, a11, a12, a13, a14, a15, a16, a17, a18, a19, a20, a21, a22
part C pins: b1, b2, b3, b4, b5, b6, b7, b8, b9, b10, b11, b12, b13, b14, b15, b16, b17, b18, b19, b20, b21, b22
part D pins: c1, c2, c3, c4, c5, c6, c7, c8, c9, c10, c11, c12, c13, c14, c15, c16, c17, c18, c19, c20, c21, c22
part E pins: d1, d2, d3, d4, d5, d6, d7, d8, d9, d10, d11, d12, d13, d14, d15, d16, d17, d18, d19, d20, d21, d22
part F pins: e1, e2, e3, e4, e5, e6, e7, e8, e9, e10, e11, e12, e13, e14, e15, e16, e17, e18, e19, e20, e21, e22
part G pins: f1, f2, f3, f4, f5, f6, f7, f8, f9, f10, f11, f12, f13, f14, f15, f16, f17, f18, f19, f20, f21, f22

## 352711-1
designator J?
Z-Pack 2mm Hard Metric Type B 133 Position Male PCB Mount Connector; ContactMaterial: Phosphor Bronze; ContactPlating: Gold (30) over Nickel (50); Positions: 133; PCB_Layout: Complies with manufacturer's recommendation.; DrillSize: Corresponds to nominal value.; Published: 17-Jul-2002; LatestRevisionDate: 29-May-2009; LatestRevisionNote: Component Body Added.; DatasheetVersion: 4-Nov-1998; PackageVersion: 04-Nov-1998; PackageReference: 352711-1; Publisher: Altium Limited; Orientation: Vertical; HousingMaterial: Glass-Filled Polyester, UL 94V-0; ComponentLink1Description: Manufacturer Link; ComponentLink1URL: http://www.tycoelectronics.com/; ComponentLink2Description: Packaging Specification; ComponentLink2URL: http://ecommas.tycoelectronics.com/commerce/DocumentDelivery/DDEController?Action=showdoc&DocId=Customer+Drawing%7F352711%7FC%7Ftif%7FEnglish%7FENG_CD_352711_C.tif
footprint 352711-1 (Connector; CompactPCI; 133 Position; Vertical)
signal-integrity model CompactPCI
part A pins: z1, z2, z3, z4, z5, z6, z7, z8, z9, z10, z11, z12, z13, z14, z15, z16, z17, z18, z19
part B pins: a1, a2, a3, a4, a5, a6, a7, a8, a9, a10, a11, a12, a13, a14, a15, a16, a17, a18, a19
part C pins: b1, b2, b3, b4, b5, b6, b7, b8, b9, b10, b11, b12, b13, b14, b15, b16, b17, b18, b19
part D pins: c1, c2, c3, c4, c5, c6, c7, c8, c9, c10, c11, c12, c13, c14, c15, c16, c17, c18, c19
part E pins: d1, d2, d3, d4, d5, d6, d7, d8, d9, d10, d11, d12, d13, d14, d15, d16, d17, d18, d19
part F pins: e1, e2, e3, e4, e5, e6, e7, e8, e9, e10, e11, e12, e13, e14, e15, e16, e17, e18, e19
part G pins: f1, f2, f3, f4, f5, f6, f7, f8, f9, f10, f11, f12, f13, f14, f15, f16, f17, f18, f19

## 352712-1
designator J?
Z-Pack 2mm Hard Metric Type B 154 Position Male PCB Mount Connector; ContactMaterial: Phosphor Bronze; ContactPlating: Gold (30) over Nickel (50); Positions: 154; PCB_Layout: Complies with manufacturer's recommendation.; DrillSize: Corresponds to nominal value.; Published: 17-Jul-2002; LatestRevisionDate: 29-May-2009; LatestRevisionNote: Component Body Added.; DatasheetVersion: 4-Nov-1998; PackageVersion: 04-Nov-1998; PackageReference: 352712-1; Publisher: Altium Limited; Orientation: Vertical; HousingMaterial: Glass-Filled Polyester, UL 94V-0; ComponentLink1Description: Manufacturer Link; ComponentLink1URL: http://www.tycoelectronics.com/; ComponentLink2Description: Packaging Specification; ComponentLink2URL: http://ecommas.tycoelectronics.com/commerce/DocumentDelivery/DDEController?Action=showdoc&DocId=Customer+Drawing%7F352712%7FC%7Ftif%7FEnglish%7FENG_CD_352712_C.tif
footprint 352712-1 (Connector; CompactPCI; 154 Position; Vertical)
signal-integrity model CompactPCI
part A pins: z1, z2, z3, z4, z5, z6, z7, z8, z9, z10, z11, z12, z13, z14, z15, z16, z17, z18, z19, z20, z21, z22
part B pins: a1, a2, a3, a4, a5, a6, a7, a8, a9, a10, a11, a12, a13, a14, a15, a16, a17, a18, a19, a20, a21, a22
part C pins: b1, b2, b3, b4, b5, b6, b7, b8, b9, b10, b11, b12, b13, b14, b15, b16, b17, b18, b19, b20, b21, b22
part D pins: c1, c2, c3, c4, c5, c6, c7, c8, c9, c10, c11, c12, c13, c14, c15, c16, c17, c18, c19, c20, c21, c22
part E pins: d1, d2, d3, d4, d5, d6, d7, d8, d9, d10, d11, d12, d13, d14, d15, d16, d17, d18, d19, d20, d21, d22
part F pins: e1, e2, e3, e4, e5, e6, e7, e8, e9, e10, e11, e12, e13, e14, e15, e16, e17, e18, e19, e20, e21, e22
part G pins: f1, f2, f3, f4, f5, f6, f7, f8, f9, f10, f11, f12, f13, f14, f15, f16, f17, f18, f19, f20, f21, f22

## 352713-1
designator J?
Z-pack 2mm Hard Metric Type B 132 Position Male PCB Mount Connector; ContactMaterial: Phosphor Bronze; ContactPlating: Gold (30) over Nickel (50); Positions: 132; PCB_Layout: Complies with manufacturer's recommendation.; DrillSize: Corresponds to nominal value.; Published: 17-Jul-2002; LatestRevisionDate: 29-May-2009; LatestRevisionNote: Component Body Added.; DatasheetVersion: 25-Sep-1998; PackageVersion: 25-Sep-1998; PackageReference: 352713-1; Publisher: Altium Limited; Orientation: Vertical; HousingMaterial: Glass-Filled Polyester, UL 94V-0; ComponentLink1Description: Manufacturer Link; ComponentLink1URL: http://www.tycoelectronics.com/; ComponentLink2Description: Packaging Specification; ComponentLink2URL: http://ecommas.tycoelectronics.com/commerce/DocumentDelivery/DDEController?Action=showdoc&DocId=Customer+Drawing%7F352713%7FB%7Fpdf%7FEnglish%7FENG_CD_352713_B.pdf
footprint 352713-1 (Connector; CompactPCI; 132 Position; Vertical)
signal-integrity model CompactPCI
part A pins: z1, z2, z3, z4, z5, z6, z7, z8, z9, z10, z11, z12, z13, z14, z15, z16, z17, z18, z19, z20, z21, z22
part B pins: a1, a2, a3, a4, a5, a6, a7, a8, a9, a10, a11, a12, a13, a14, a15, a16, a17, a18, a19, a20, a21, a22
part C pins: b1, b2, b3, b4, b5, b6, b7, b8, b9, b10, b11, b12, b13, b14, b15, b16, b17, b18, b19, b20, b21, b22
part D pins: c1, c2, c3, c4, c5, c6, c7, c8, c9, c10, c11, c12, c13, c14, c15, c16, c17, c18, c19, c20, c21, c22
part E pins: d1, d2, d3, d4, d5, d6, d7, d8, d9, d10, d11, d12, d13, d14, d15, d16, d17, d18, d19, d20, d21, d22
part F pins: e1, e2, e3, e4, e5, e6, e7, e8, e9, e10, e11, e12, e13, e14, e15, e16, e17, e18, e19, e20, e21, e22
part G pins: f1, f2, f3, f4, f5, f6, f7, f8, f9, f10, f11, f12, f13, f14, f15, f16, f17, f18, f19, f20, f21, f22

## 352715-1
designator J?
Z-Pack 2mm Hard Metric Type B 133 Position Male PCB Mount Connector; ContactMaterial: Phosphor Bronze; ContactPlating: Gold (30) over Nickel (50); Positions: 133; PCB_Layout: Complies with manufacturer's recommendation.; DrillSize: Corresponds to nominal value.; Published: 17-Jul-2002; LatestRevisionDate: 29-May-2009; LatestRevisionNote: Component Body Added.; DatasheetVersion: 4-Nov-1998; PackageVersion: 04-Nov-1998; PackageReference: 352715-1; Publisher: Altium Limited; Orientation: Vertical; HousingMaterial: Glass-Filled Polyester, UL 94V-0; ComponentLink1Description: Manufacturer Link; ComponentLink1URL: http://www.tycoelectronics.com/; ComponentLink2Description: Packaging Specification; ComponentLink2URL: http://ecommas.tycoelectronics.com/commerce/DocumentDelivery/DDEController?Action=showdoc&DocId=Customer+Drawing%7F352715%7FB%7Fpdf%7FEnglish%7FENG_CD_352715_B.pdf
footprint 352715-1 (Connector; CompactPCI; 133 Position; Vertical)
signal-integrity model CompactPCI
part A pins: z1, z2, z3, z4, z5, z6, z7, z8, z9, z10, z11, z12, z13, z14, z15, z16, z17, z18, z19
part B pins: a1, a2, a3, a4, a5, a6, a7, a8, a9, a10, a11, a12, a13, a14, a15, a16, a17, a18, a19
part C pins: b1, b2, b3, b4, b5, b6, b7, b8, b9, b10, b11, b12, b13, b14, b15, b16, b17, b18, b19
part D pins: c1, c2, c3, c4, c5, c6, c7, c8, c9, c10, c11, c12, c13, c14, c15, c16, c17, c18, c19
part E pins: d1, d2, d3, d4, d5, d6, d7, d8, d9, d10, d11, d12, d13, d14, d15, d16, d17, d18, d19
part F pins: e1, e2, e3, e4, e5, e6, e7, e8, e9, e10, e11, e12, e13, e14, e15, e16, e17, e18, e19
part G pins: f1, f2, f3, f4, f5, f6, f7, f8, f9, f10, f11, f12, f13, f14, f15, f16, f17, f18, f19

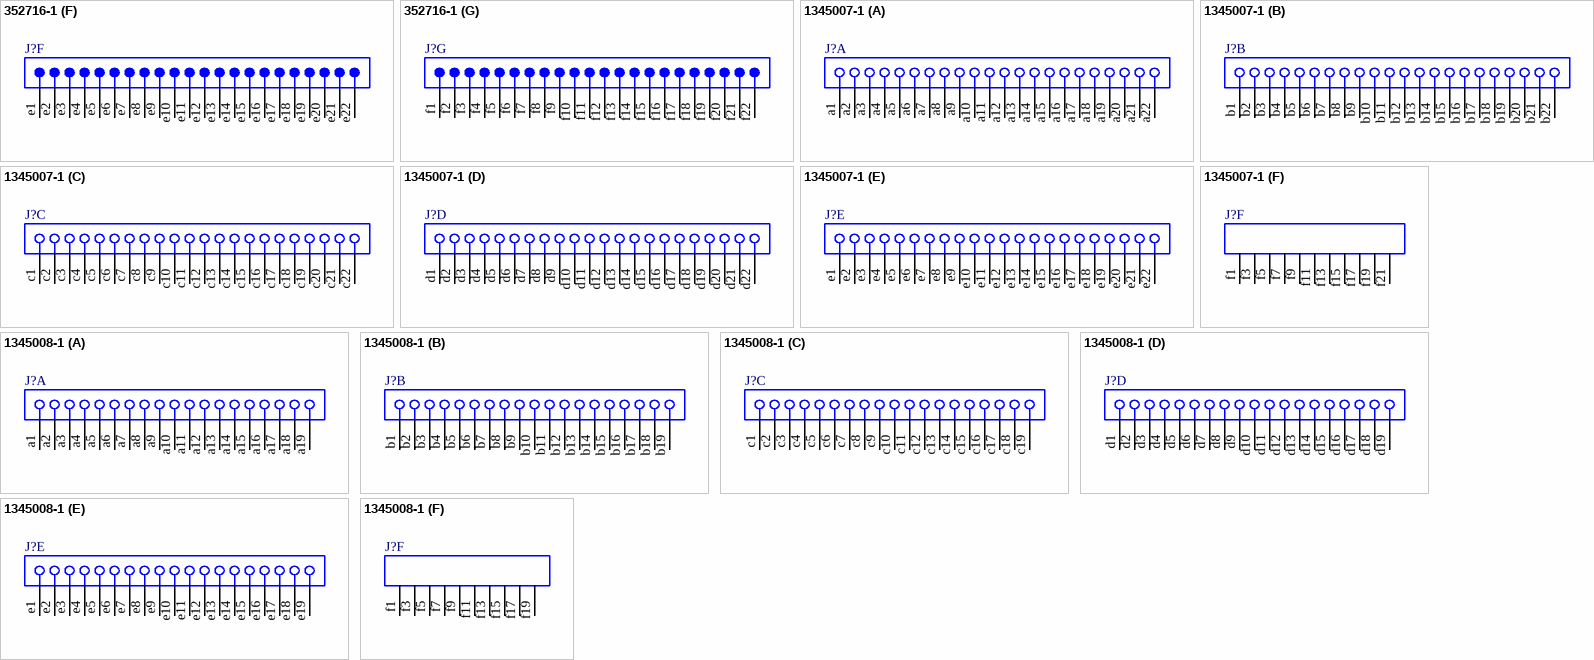
[diagram p4: symbols 352716-1 to 1345008-1]

## 352716-1
designator J?
Z-Pack 2mm Hard Metric Type B 154 Position Male PCB Mount Connector; ContactMaterial: Phosphor Bronze; ContactPlating: Gold (30) over Nickel (50); Positions: 154; PCB_Layout: Complies with manufacturer's recommendation.; DrillSize: Corresponds to nominal value.; Published: 17-Jul-2002; LatestRevisionDate: 29-May-2009; LatestRevisionNote: Component Body Added.; DatasheetVersion: 15-Dec-1999; PackageVersion: 15-Dec-1999; PackageReference: 352716-1; Publisher: Altium Limited; Orientation: Vertical; HousingMaterial: Glass-Filled Polyester, UL 94V-0; ComponentLink1Description: Manufacturer Link; ComponentLink1URL: http://www.tycoelectronics.com/; ComponentLink2Description: Packaging Specification; ComponentLink2URL: http://ecommas.tycoelectronics.com/commerce/DocumentDelivery/DDEController?Action=showdoc&DocId=Customer+Drawing%7F352716%7FB%7Fpdf%7FEnglish%7FENG_CD_352716_B.pdf
footprint 352716-1 (Connector; CompactPCI; 154 Position; Vertical)
signal-integrity model CompactPCI
part A pins: z1, z2, z3, z4, z5, z6, z7, z8, z9, z10, z11, z12, z13, z14, z15, z16, z17, z18, z19, z20, z21, z22
part B pins: a1, a2, a3, a4, a5, a6, a7, a8, a9, a10, a11, a12, a13, a14, a15, a16, a17, a18, a19, a20, a21, a22
part C pins: b1, b2, b3, b4, b5, b6, b7, b8, b9, b10, b11, b12, b13, b14, b15, b16, b17, b18, b19, b20, b21, b22
part D pins: c1, c2, c3, c4, c5, c6, c7, c8, c9, c10, c11, c12, c13, c14, c15, c16, c17, c18, c19, c20, c21, c22
part E pins: d1, d2, d3, d4, d5, d6, d7, d8, d9, d10, d11, d12, d13, d14, d15, d16, d17, d18, d19, d20, d21, d22
part F pins: e1, e2, e3, e4, e5, e6, e7, e8, e9, e10, e11, e12, e13, e14, e15, e16, e17, e18, e19, e20, e21, e22
part G pins: f1, f2, f3, f4, f5, f6, f7, f8, f9, f10, f11, f12, f13, f14, f15, f16, f17, f18, f19, f20, f21, f22

## 1345007-1
designator J?
Z-Pack 2mm Hard Metric Type B 110 Position Female Daughter Card Connector; ContactMaterial: Phosphor Bronze; ContactPlating: Gold (30) over Nickel (50); Positions: 110; PCB_Layout: Complies with manufacturer's recommendation.; DrillSize: Corresponds to nominal value.; Published: 17-Jul-2002; LatestRevisionDate: 29-May-2009; LatestRevisionNote: Component Body Added.; DatasheetVersion: 11-Feb-1997; PackageVersion: 11-Feb-1997; PackageReference: 1345007-1; Publisher: Altium Limited; Orientation: Right Angle; HousingMaterial: Glass-Filled Polyester, UL 94V-0; ComponentLink1Description: Manufacturer Link; ComponentLink1URL: http://www.tycoelectronics.com/; ComponentLink2Description: Packaging Specification; ComponentLink2URL: http://ecommas.tycoelectronics.com/commerce/DocumentDelivery/DDEController?Action=showdoc&DocId=Customer+Drawing%7F1345007%7FE%7Ftif%7FEnglish%7FENG_CD_1345007_E.tif
footprint 1345007-1 (Connector; CompactPCI; 110 Position; Right Angle)
signal-integrity model CompactPCI
part A pins: a1, a2, a3, a4, a5, a6, a7, a8, a9, a10, a11, a12, a13, a14, a15, a16, a17, a18, a19, a20, a21, a22
part B pins: b1, b2, b3, b4, b5, b6, b7, b8, b9, b10, b11, b12, b13, b14, b15, b16, b17, b18, b19, b20, b21, b22
part C pins: c1, c2, c3, c4, c5, c6, c7, c8, c9, c10, c11, c12, c13, c14, c15, c16, c17, c18, c19, c20, c21, c22
part D pins: d1, d2, d3, d4, d5, d6, d7, d8, d9, d10, d11, d12, d13, d14, d15, d16, d17, d18, d19, d20, d21, d22
part E pins: e1, e2, e3, e4, e5, e6, e7, e8, e9, e10, e11, e12, e13, e14, e15, e16, e17, e18, e19, e20, e21, e22
part F pins: f1, f3, f5, f7, f9, f11, f13, f15, f17, f19, f21

## 1345008-1
designator J?
Z-Pack 2mm Hard Metric Type B 95 Position Female PCB Mount Connector; ContactMaterial: Phosphor Bronze; ContactPlating: Gold (30) over Nickel (50); Positions: 95; PCB_Layout: Complies with manufacturer's recommendation.; DrillSize: Corresponds to nominal value.; Published: 17-Jul-2002; LatestRevisionDate: 29-May-2009; LatestRevisionNote: Component Body Added.; DatasheetVersion: 23-Nov-1999; PackageVersion: 23-Nov-1999; PackageReference: 1345008-1; Publisher: Altium Limited; Orientation: Right Angle; HousingMaterial: Glass-Filled Polyester, UL 94V-0; ComponentLink1Description: Manufacturer Link; ComponentLink1URL: http://www.tycoelectronics.com/; ComponentLink2Description: Packaging Specification; ComponentLink2URL: http://ecommas.tycoelectronics.com/commerce/DocumentDelivery/DDEController?Action=showdoc&DocId=Customer+Drawing%7F1345008%7FE%7Ftif%7FEnglish%7FENG_CD_1345008_E.tif
footprint 1345008-1 (Connector; CompactPCI; 95 Position; Right Angle)
signal-integrity model CompactPCI
part A pins: a1, a2, a3, a4, a5, a6, a7, a8, a9, a10, a11, a12, a13, a14, a15, a16, a17, a18, a19
part B pins: b1, b2, b3, b4, b5, b6, b7, b8, b9, b10, b11, b12, b13, b14, b15, b16, b17, b18, b19
part C pins: c1, c2, c3, c4, c5, c6, c7, c8, c9, c10, c11, c12, c13, c14, c15, c16, c17, c18, c19
part D pins: d1, d2, d3, d4, d5, d6, d7, d8, d9, d10, d11, d12, d13, d14, d15, d16, d17, d18, d19
part E pins: e1, e2, e3, e4, e5, e6, e7, e8, e9, e10, e11, e12, e13, e14, e15, e16, e17, e18, e19
part F pins: f1, f3, f5, f7, f9, f11, f13, f15, f17, f19